# EAGLE library part W550IO_V1.1 (library WIZ550io_V1.1)
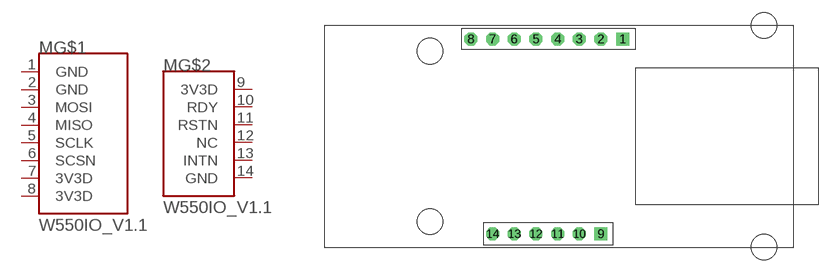
[diagram p0: symbol with the pads of WIZ550IO_V1.1; footprint WIZ550IO_V1.1]

Designator prefix M; gates G$1=WIZ550IO_V1.1_1 G$2=WIZ550IO_V1.1_2

## W550IO_V1.1  [WIZ550IO_V1.1]
1  G$1:GND  pas
2  G$1:GND  pas
3  G$1:MOSI  pas
4  G$1:MISO  pas
5  G$1:SCLK  pas
6  G$1:SCSN  pas
7  G$1:3V3D  pas
8  G$1:3V3D  pas
9  G$2:3V3D  pas
10  G$2:RDY  pas
11  G$2:RSTN  pas
12  G$2:NC  pas
13  G$2:INTN  pas
14  G$2:GND  pas

## Footprint WIZ550IO_V1.1 (pad centres in mm)
drill 1.016 square: 1 7.44,11.43; 9 4.9,-11.43
drill 1.016 octagon: 2 4.9,11.43; 3 2.36,11.43; 4 -0.18,11.43; 5 -2.72,11.43; 6 -5.26,11.43; 7 -7.8,11.43; 8 -10.34,11.43; 10 2.36,-11.43; 11 -0.18,-11.43; 12 -2.72,-11.43; 13 -5.26,-11.43; 14 -7.8,-11.43
hole 3 at -15.1,-10
hole 3 at 24,13
hole 3 at 24,-13
hole 3 at -15.1,10